# Altium footprint library NJL7502L.PcbLib: 1 footprints
Each footprint in its own frame and in the unit in brackets; x right, y up, seen from the top. Pads: shape width x height; smd on the part's side, far side on the other; paste and mask are expansions set on the pad; w line width, h text height; cw(c..) or ccw(c..) is an arc to the next point about the centre after c.
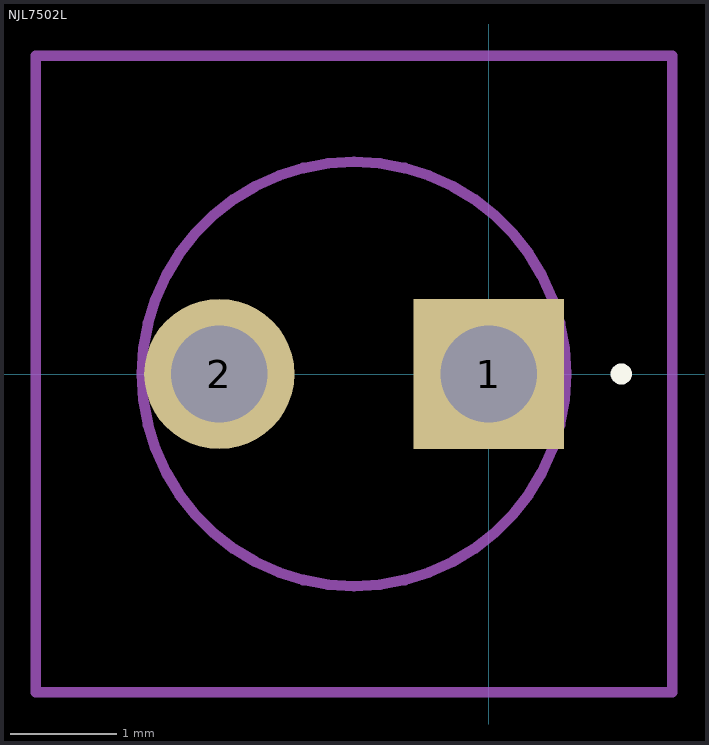
[diagram p0: the footprint, top view; thin cyan lines are the x and y axes]

## NJL7502L [mm]
pads (2):
  rect 1.416x1.416 hole 0.91: 1(0,0)
  round 1.416 hole 0.91: 2(-2.54,0)
Top Overlay:
  lines w0.1: 1.2,0 1.2,0 ; 1.2,0 ccw(c1.25,0) 1.3,0 ; 1.2,0 cw(c1.25,0) 1.3,0 ; 1.3,0 1.3,0
Mechanical 15:
  lines w0.1: -1.27,-2 cw(c-1.27,0) -1.27,2 ; -1.27,-2 -1.27,-2 ; -1.27,-2 ccw(c-1.27,0) -1.27,2 ; -1.27,2 -1.27,2
Mechanical 20:
  lines w0.1: -4.27,-3 1.73,-3 1.73,3 -4.27,3 -4.27,-3